# Altium schematic symbol library OP.SchLib: 14 symbols
Pins are listed as number, name and electrical type; pins without a type are passive.

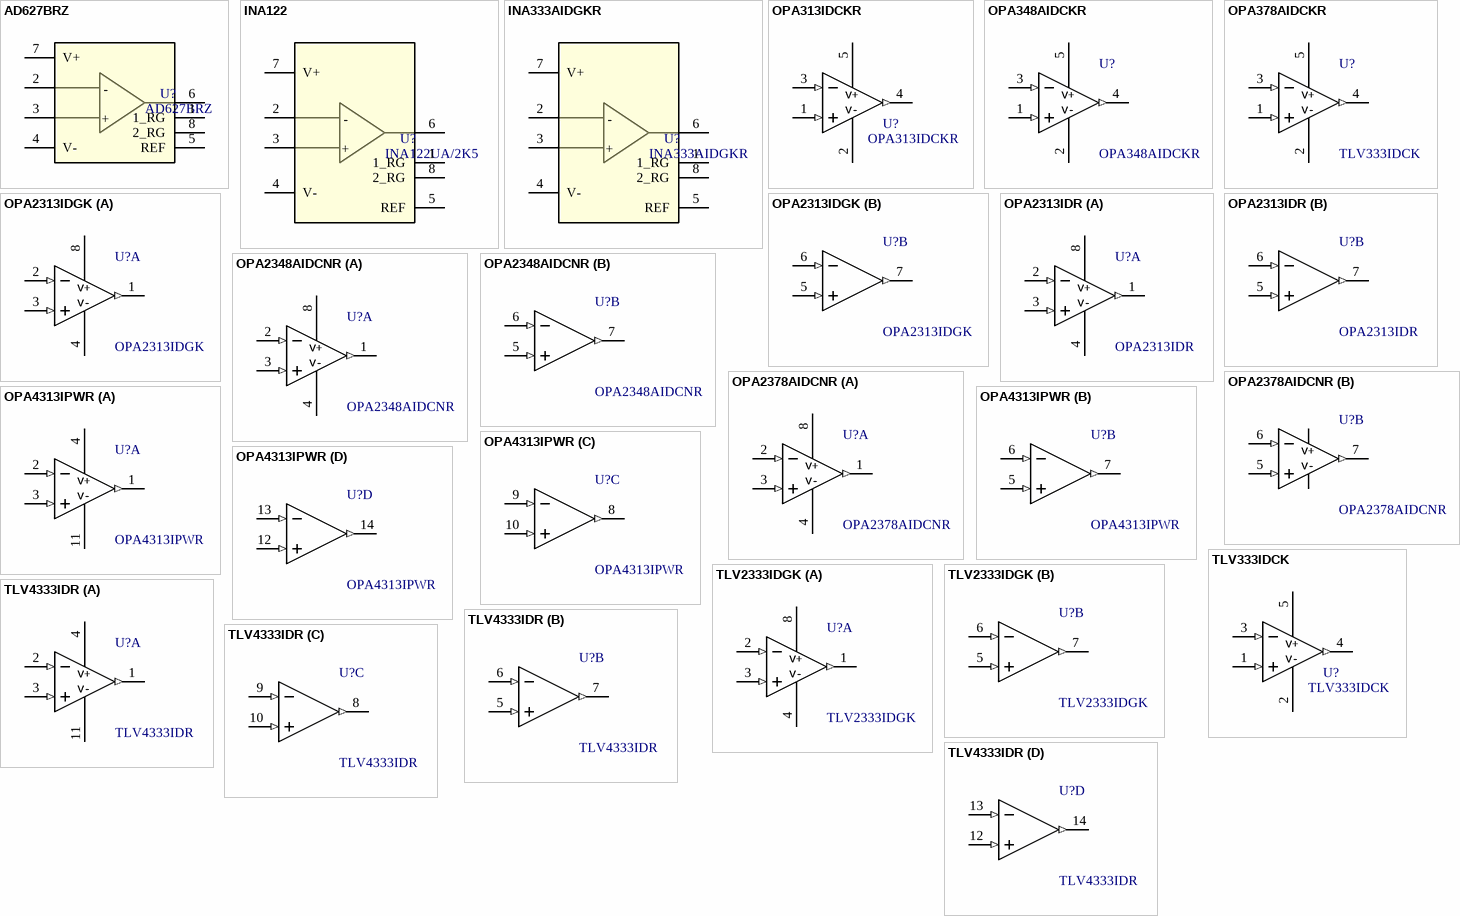
[diagram p0: symbols AD627BRZ to TLV4333IDR]

## AD627BRZ
designator U?
增益带宽积（GBP） 80kHz(-3dB) / 放大器组数 1 / 输出类型 Rail-to-Rail / 运放类型 Instrumentation / 各通道功耗 - / 压摆率（SR） 0.06 V/us / 工作温度 -40℃~85℃ / 电源电压 2.2V ~ 36V, ±1.1V ~ 18V; Manufacturer: TI(德州仪器); CompType: 运放; DistributorCode: C19137; Package: SOIC-8_150mil; Code: AD627BRZ; A_Code: -; A_Manufacturer: -; A_ComType: -
footprint SOP-8_150mil
pins: 1 1_RG, 2 VIN- (hiz), 3 VIN+ (hiz), 4 V- (power), 5 REF, 6 VOUT, 7 V+ (power), 8 2_RG
text: +

## INA122
designator U?, comment INA122UA/2K5
放大器组数 1 / 输出类型 - / 运放类型 Instrumentation / 各通道功耗 60uA / 压摆率（SR） 0.16 V/us / 工作温度 -40℃~85℃ / 电源电压 2.2V ~ 36V, -0.9V/+1.3V ~ 18V /; Manufacturer: TI(德州仪器); CompType: 运放; DistributorCode: C40768; Package: SOIC-8_150mil; Code: INA122UA/2K5; A_Code: -; A_Manufacturer: -; A_ComType: -
footprint SOP-8_150mil
pins: 1 1_RG, 2 VIN- (hiz), 3 VIN+ (hiz), 4 V- (power), 5 REF, 6 VOUT, 7 V+ (power), 8 2_RG
text: +

## INA333AIDGKR
designator U?
输出类型 Rail-to-Rail / 运放类型 Instrumentation / 各通道功耗 75uA / 压摆率（SR） 0.16 V/us / 工作温度 -40°C ~ 125°C / 电源电压 1.8V ~ 5.5V, ±0.9V ~ 2.75V; Manufacturer: TI(德州仪器); CompType: 运放; DistributorCode: C19450; Package: VSSOP8; Code: INA333AIDGKR; A_Code: -; A_Manufacturer: -; A_ComType: -
footprint DGK8_TEX-L
pins: 1 1_RG, 2 VIN- (hiz), 3 VIN+ (hiz), 4 V- (power), 5 REF, 6 VOUT, 7 V+ (power), 8 2_RG
text: +

## OPA313IDCKR
designator U?
增益带宽积（GBP） 1MHz / 放大器组数 1 / 输出类型 Rail-to-Rail / 运放类型 General Purpose / 各通道功耗 50uA / 压摆率（SR） 0.5 V/us / 工作温度 -40°C ~ 125°C / 电源电压 1.8V ~ 5.5V; Manufacturer: TI(德州仪器); CompType: 运放; DistributorCode: C129150; Package: SC-70-5; Code: OPA313IDCKR; A_Code: -; A_Manufacturer: -; A_ComType: -
footprint DCK0005A_N
pins: 1 IN+ (in), 2 V- (power), 3 IN- (in), 4 OUT (out), 5 V+ (power)

## OPA348AIDCKR
designator U?
增益带宽积（GBP） 1MHz / 放大器组数 1 / 输出类型 Rail-to-Rail / 运放类型 General Purpose / 各通道功耗 - / 压摆率（SR） 0.5 V/us / 工作温度 -40°C ~ 125°C / 电源电压 2.1V ~ 5.5V; Manufacturer: TI(德州仪器); CompType: 运放; DistributorCode: C353160; Package: SC-70-5; Code: OPA348AIDCKR
footprint DCK0005A_N
pins: 1 IN+ (in), 2 V- (power), 3 IN- (in), 4 OUT (out), 5 V+ (power)

## OPA378AIDCKR
designator U?, comment TLV333IDCK
Manufacturer: TI(德州仪器); Code: OPA378AIDCKR; CompType: 运放; DistributorCode: C2058269; Package: SC-70-5
footprint DCK0005A_N
pins: 1 IN+ (in), 2 V- (power), 3 IN- (in), 4 OUT (out), 5 V+ (power)

## OPA2313IDGK
designator U?
增益带宽积（GBP） 1MHz / 放大器组数 2 / 输出类型 Rail-to-Rail / 运放类型 General Purpose / 各通道功耗 50uA / 压摆率（SR） 0.5 V/us / 工作温度 -40°C ~ 125°C / 电源电压 1.8V ~ 5.5V; Manufacturer: TI(德州仪器); CompType: 运放; DistributorCode: C1347995; Package: VSSOP-8; Code: OPA2313IDGK
footprint DGK8_TEX-L
part A pins: 1 OUT (out), 2 IN- (in), 3 IN+ (in), 4 V- (power), 8 V+ (power)
part B pins: 5 IN+ (in), 6 IN- (in), 7 OUT (out)

## OPA2313IDR
designator U?
增益带宽积（GBP） 1MHz / 放大器组数 2 / 输出类型 Rail-to-Rail / 运放类型 General Purpose / 各通道功耗 50uA / 压摆率（SR） 0.5 V/us / 工作温度 -40°C ~ 125°C / 电源电压 1.8V ~ 5.5V; Manufacturer: TI(德州仪器); CompType: 运放; DistributorCode: C132028; Package: SOIC-8; Code: OPA2313IDR
footprint SOP-8_150mil
part A pins: 1 OUT (out), 2 IN- (in), 3 IN+ (in), 4 V- (power), 8 V+ (power)
part B pins: 5 IN+ (in), 6 IN- (in), 7 OUT (out)

## OPA2348AIDCNR
designator U?
增益带宽积（GBP） 1MHz / 放大器组数 2 / 输出类型 Rail-to-Rail / 运放类型 General Purpose / 各通道功耗 - / 压摆率（SR） 0.5 V/us / 工作温度 -40°C ~ 125°C / 电源电压 2.1V ~ 5.5V; Manufacturer: TI(德州仪器); CompType: 运放; DistributorCode: C51564; Package: SOT-23-8; Code: OPA2348AIDCNR
footprint DCN8-L
part A pins: 1 OUT (out), 2 IN- (in), 3 IN+ (in), 4 V- (power), 8 V+ (power)
part B pins: 5 IN+ (in), 6 IN- (in), 7 OUT (out)

## OPA2378AIDCNR
designator U?
增益带宽积（GBP） 900kHz / 放大器组数 2 / 输出类型 Rail-to-Rail / 运放类型 Zero-Drift / 各通道功耗 - / 压摆率（SR） 0.4 V/us / 工作温度 -40°C ~ 125°C / 电源电压 2.2V ~ 5.5V, ±1.1V ~ 2.75V; Manufacturer: TI(德州仪器); CompType: 运放; DistributorCode: C133030; Package: VSSOP-8; Code: OPA2378AIDCNR
footprint DCN8-L
part A pins: 1 OUT (out), 2 IN- (in), 3 IN+ (in), 4 V- (power), 8 V+ (power)
part B pins: 5 IN+ (in), 6 IN- (in), 7 OUT (out)

## OPA4313IPWR
designator U?
电源电压 1.8V ~ 5.5V, ±0.9V ~ 2.75V / 增益带宽积（GBP） 350kHz / 压摆率（SR） 0.16 V/us / 工作温度 -40°C ~ 125°C; Manufacturer: TI(德州仪器); CompType: 运放; DistributorCode: C2057614; Package: TSSOP-14; Code: OPA4313IPWR
footprint PW14_TEX-L
part A pins: 1 OUT (out), 2 IN- (in), 3 IN+ (in), 4 V+ (power), 11 V- (power)
part B pins: 5 IN+ (in), 6 IN- (in), 7 OUT (out)
part C pins: 8 OUT (out), 9 IN- (in), 10 IN+ (in)
part D pins: 12 IN+ (in), 13 IN- (in), 14 OUT (out)

## TLV333IDCK
designator U?
电源电压 1.8V ~ 5.5V, ±0.9V ~ 2.75V / 增益带宽积（GBP） 350kHz / 压摆率（SR） 0.16 V/us / 工作温度 -40°C ~ 125°C /; Manufacturer: TI(德州仪器); CompType: 运放; DistributorCode: C181502; Package: SC-70-5; Code: TLV333IDCK; A_Code: -; A_Manufacturer: -; A_ComType: -
footprint DCK0005A_N
pins: 1 IN+ (in), 2 V- (power), 3 IN- (in), 4 OUT (out), 5 V+ (power)

## TLV2333IDGK
designator U?
电源电压 1.8V ~ 5.5V, ±0.9V ~ 2.75V / 增益带宽积（GBP） 350kHz / 压摆率（SR） 0.16 V/us / 工作温度 -40°C ~ 125°C; Manufacturer: TI(德州仪器); Code: TLV2333IDGKR; CompType: 运放; DistributorCode: C527573; Package: VSSOP-8
footprint DGK8_TEX-L
part A pins: 1 OUT (out), 2 IN- (in), 3 IN+ (in), 4 V- (power), 8 V+ (power)
part B pins: 5 IN+ (in), 6 IN- (in), 7 OUT (out)

## TLV4333IDR
designator U?
电源电压 1.8V ~ 5.5V, ±0.9V ~ 2.75V / 增益带宽积（GBP） 350kHz / 压摆率（SR） 0.16 V/us / 工作温度 -40°C ~ 125°C; Manufacturer: TI(德州仪器); CompType: 运放; DistributorCode: C140298; Package: SOIC-14; Code: TLV4333IDR
footprint D14
part A pins: 1 OUT (out), 2 IN- (in), 3 IN+ (in), 4 V+ (power), 11 V- (power)
part B pins: 5 IN+ (in), 6 IN- (in), 7 OUT (out)
part C pins: 8 OUT (out), 9 IN- (in), 10 IN+ (in)
part D pins: 12 IN+ (in), 13 IN- (in), 14 OUT (out)